# EAGLE library part TEXAS_INSTRUMENTS_TPS7A33 (library Poe)
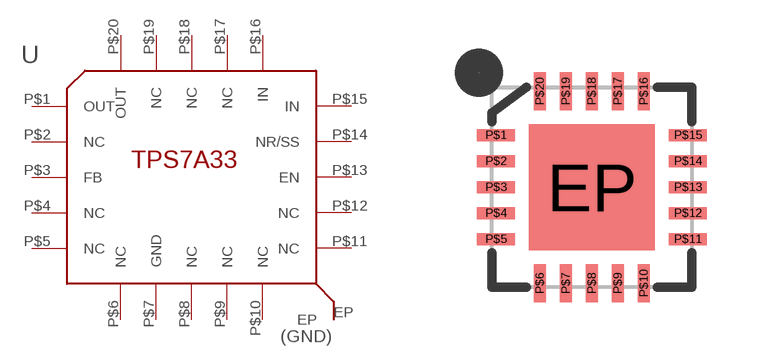
[diagram p12: symbol with the pads of 20-VQFN_EXPPAD; footprint 20-VQFN_EXPPAD]

Designator prefix U

## TEXAS_INSTRUMENTS_TPS7A33  [20-VQFN_EXPPAD]
EP  EP
P$1  OUT
P$2  NC
P$3  FB
P$4  NC
P$5  NC
P$6  NC
P$7  GND
P$8  NC
P$9  NC
P$10  NC
P$11  NC
P$12  NC
P$13  EN
P$14  NR/SS
P$15  IN
P$16  IN
P$17  NC
P$18  NC
P$19  NC
P$20  OUT

## Footprint 20-VQFN_EXPPAD (pad centres in mm)
smd 3.15 x 3.15: EP 0,0
smd 0.95 x 0.3: P$1 -2.4,1.3; P$2 -2.4,0.65; P$3 -2.4,0; P$4 -2.4,-0.65; P$5 -2.4,-1.3; P$11 2.4,-1.3; P$12 2.4,-0.65; P$13 2.4,0; P$14 2.4,0.65; P$15 2.4,1.3
smd 0.3 x 0.95: P$6 -1.3,-2.4; P$7 -0.65,-2.4; P$8 0,-2.4; P$9 0.65,-2.4; P$10 1.3,-2.4; P$16 1.3,2.4; P$17 0.65,2.4; P$18 0,2.4; P$19 -0.65,2.4; P$20 -1.3,2.4